# Altium footprint library Ao4882.PcbLib: 1 footprints
Each footprint in its own frame and in the unit in brackets; x right, y up, seen from the top. Pads: shape width x height; smd on the part's side, far side on the other; paste and mask are expansions set on the pad; w line width, h text height; cw(c..) or ccw(c..) is an arc to the next point about the centre after c.
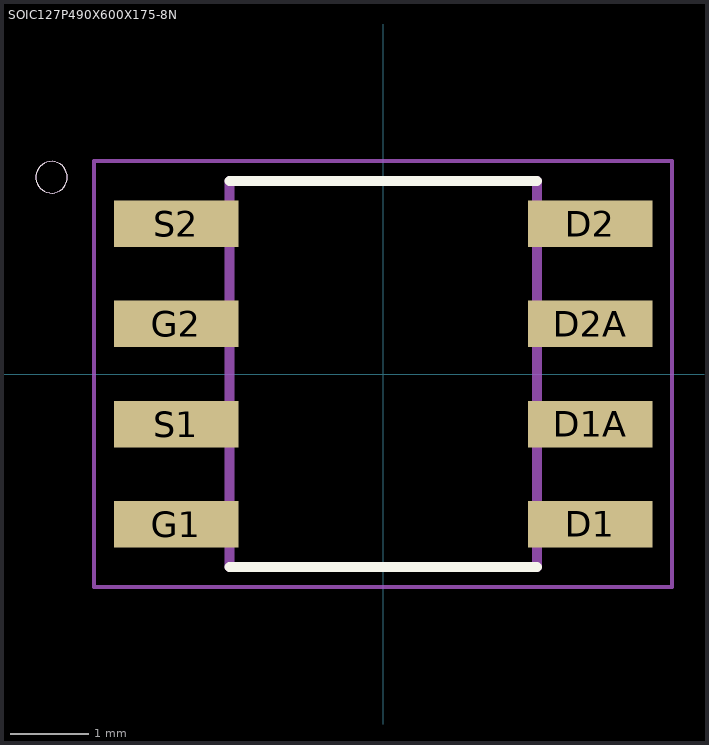
[diagram p0: the footprint, top view; thin cyan lines are the x and y axes]

## SOIC127P490X600X175-8N [mm]
pads (8):
  rect 1.58x0.59 smd: D1(2.625,-1.905) D1A(2.625,-0.635) D2(2.625,1.905) D2A(2.625,0.635) G1(-2.625,-1.905) G2(-2.625,0.635) S1(-2.625,-0.635) S2(-2.625,1.905)
Top Overlay:
  circle w0: c-4.205,2.495 r0.2
  lines w0.127: -1.95,-2.45 1.95,-2.45 ; -1.95,2.45 1.95,2.45
Mechanical 1:
  circle w0: c-4.205,2.495 r0.2
  lines w0.05: -3.665,-2.7 -3.665,2.7 3.665,2.7 3.665,-2.7 -3.665,-2.7
  lines w0.127: -1.95,-2.45 -1.95,2.45 1.95,2.45 1.95,-2.45 -1.95,-2.45